# EAGLE library part SPI_TFT_DISPLAY (library kanflo)
SPI TFT Display Connector for the cheap 2.2"/2.4" Serial SPI TFT displays found on eBay.
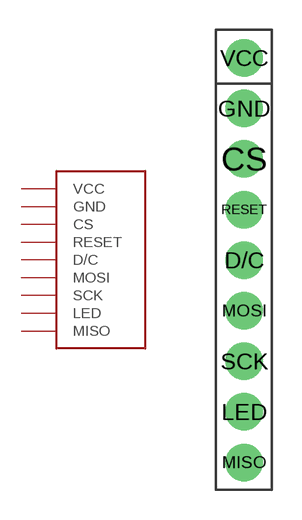
[diagram p5: symbol with the pads of SPI_DISPLAY; footprint SPI_DISPLAY]

Designator prefix J

## SPI_TFT_DISPLAY  [SPI_DISPLAY]
CS  CS
D/C  D/C
GND  GND  pwr
LED  LED
MISO  MISO
MOSI  MOSI
RESET  RESET
SCK  SCK
VCC  VCC  pwr

## Footprint SPI_DISPLAY (pad centres in mm)
drill 1.016 pad 1.88: CS -5.08,3.81; D/C -5.08,-1.27; GND -5.08,6.35; LED -5.08,-8.89; MISO -5.08,-11.43; MOSI -5.08,-3.81; RESET -5.08,1.27; SCK -5.08,-6.35; VCC -5.08,8.89